# Altium schematic symbol library IC.SchLib: 1 symbol
Pins are listed as number, name and electrical type; pins without a type are passive.

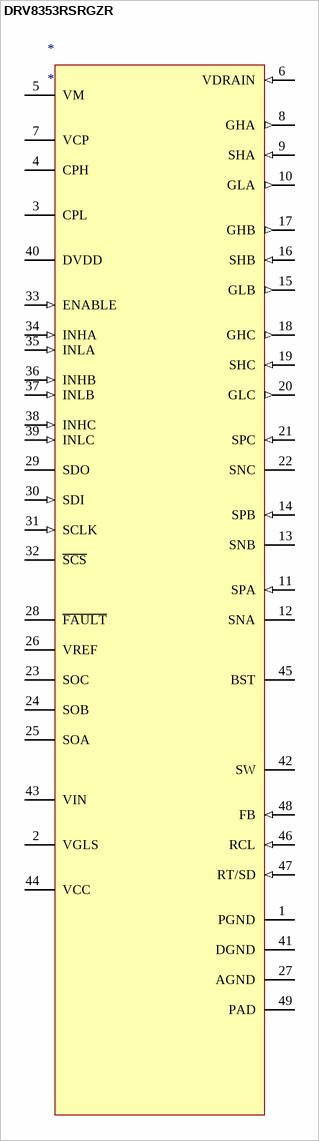
[diagram p0: symbol DRV8353RSRGZR]

## DRV8353RSRGZR
designator *
footprint DRV8353RS
pins: 1 PGND (power), 2 VGLS (power), 3 CPL, 4 CPH, 5 VM (power), 6 VDRAIN (in), 7 VCP (power), 8 GHA (out), 9 SHA (in), 10 GLA (out), 11 SPA (in), 12 SNA, 13 SNB, 14 SPB (in), 15 GLB (out), 16 SHB (in), 17 GHB (out), 18 GHC (out), 19 SHC (in), 20 GLC (out), 21 SPC (in), 22 SNC, 23 SOC, 24 SOB, 25 SOA, 26 VREF, 27 AGND (power), 28 ~{FAULT} (oc), 29 SDO, 30 SDI (in), 31 SCLK (in), 32 ~{SCS}, 33 ENABLE (in), 34 INHA (in), 35 INLA (in), 36 INHB (in), 37 INLB (in), 38 INHC (in), 39 INLC (in), 40 DVDD (power), 41 DGND (power), 42 SW (power), 43 VIN (power), 44 VCC (power), 45 BST (power), 46 RCL (in), 47 RT/SD (in), 48 FB (in), 49 PAD (power)